# Altium footprint library JUMPER.PcbLib: 4 footprints
Each footprint in its own frame and in the unit in brackets; x right, y up, seen from the top. Pads: shape width x height; smd on the part's side, far side on the other; paste and mask are expansions set on the pad; w line width, h text height; cw(c..) or ccw(c..) is an arc to the next point about the centre after c.
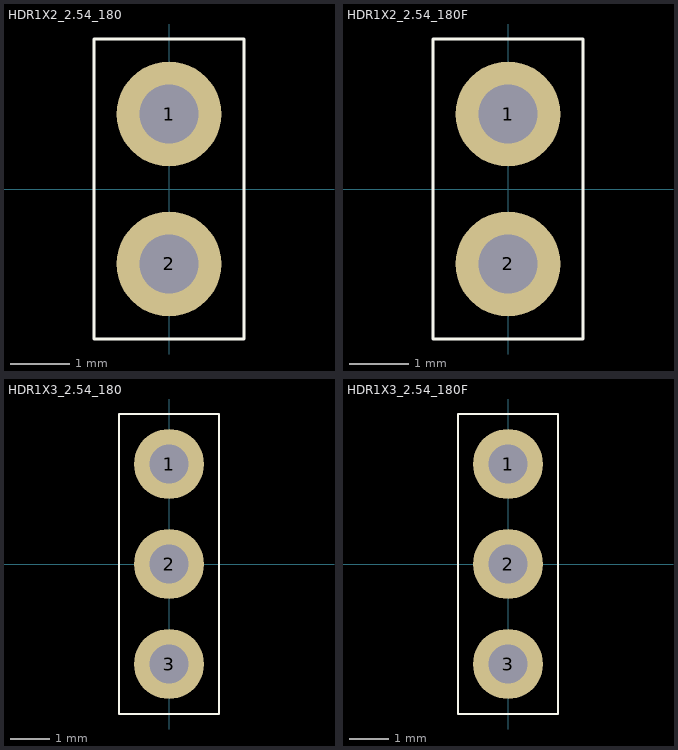
[diagram p0: the footprints below, top view; thin cyan lines are the x and y axes]

## HDR1X2_2.54_180 [mil]
height 169.29
pads (2):
  round 70 hole 39.37: 1(0,50) 2(0,-50)
Top Overlay:
  lines w2: -50,-100 -50,100 ; -50,-100 50,-100 ; -50,-100 -50,100 ; -50,-100 50,-100 ; -50,100 50,100 ; -50,100 50,100 ; 50,-100 50,100 ; 50,-100 50,100
3D body "pin_header_aw140-eg-g02d.stp": height 322.83, standoff -118.11, extent -49.36,-101 49,99

## HDR1X2_2.54_180F [mil]
height 169.29
pads (2):
  round 70 hole 39.37: 1(0,50) 2(0,-50)
Top Overlay:
  lines w2: -50,-100 -50,100 ; -50,-100 50,-100 ; -50,-100 50,-100 ; -50,-100 -50,100 ; -50,100 50,100 ; -50,100 50,100 ; 50,-100 50,100 ; 50,-100 50,100
3D body "female_header_a-bl254-eg-g02d.stp": height 334.65, standoff -125.98, extent -49.21,-104.92 49.22,104.92

## HDR1X3_2.54_180 [mil]
height 169.29
pads (3):
  round 70 hole 39.37: 1(0,100) 2(0,0) 3(0,-100)
Top Overlay:
  lines w2: -50,-150 -50,150 ; -50,-150 50,-150 ; -50,-150 -50,150 ; -50,-150 50,-150 ; -50,150 50,150 ; -50,150 50,150 ; 50,-150 50,150 ; 50,-150 50,150
3D body "pin_header_aw140-eg-g03d.stp": height 322.83, standoff -118.11, extent -49.18,-150 49.18,150

## HDR1X3_2.54_180F [mil]
height 169.29
pads (3):
  round 70 hole 39.37: 1(0,100) 2(0,0) 3(0,-100)
Top Overlay:
  lines w2: -50,-150 -50,150 ; -50,-150 50,-150 ; -50,-150 -50,150 ; -50,-150 50,-150 ; -50,150 50,150 ; -50,150 50,150 ; 50,-150 50,150 ; 50,-150 50,150
3D body "female_header_a-bl254-eg-g03d.stp": height 334.65, standoff -125.98, extent -49.21,-154.91 49.22,154.92